# EAGLE library part CN3083 (library jonsowman)
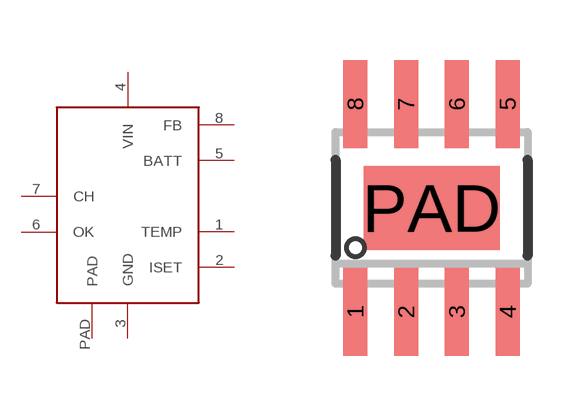
[diagram p16: symbol with the pads of SO8-PAD; footprint SO8-PAD]

Designator prefix -

## CN3083  [SO8-PAD]
1  TEMP
2  ISET
3  GND
4  VIN
5  BATT
6  OK
7  CH
8  FB
PAD  PAD

## Footprint SO8-PAD (pad centres in mm)
smd 0.6 x 2.2: 1 -1.905,-2.6; 2 -0.635,-2.6; 3 0.635,-2.6; 4 1.905,-2.6; 5 1.905,2.6; 6 0.635,2.6; 7 -0.635,2.6; 8 -1.905,2.6
smd 3.4 x 2.1: PAD 0,0